# Altium integrated library Linear Technology PMIC-Switching Reg LTC1174-LTC3901.IntLib: 2647 symbols (part 196 of 310)
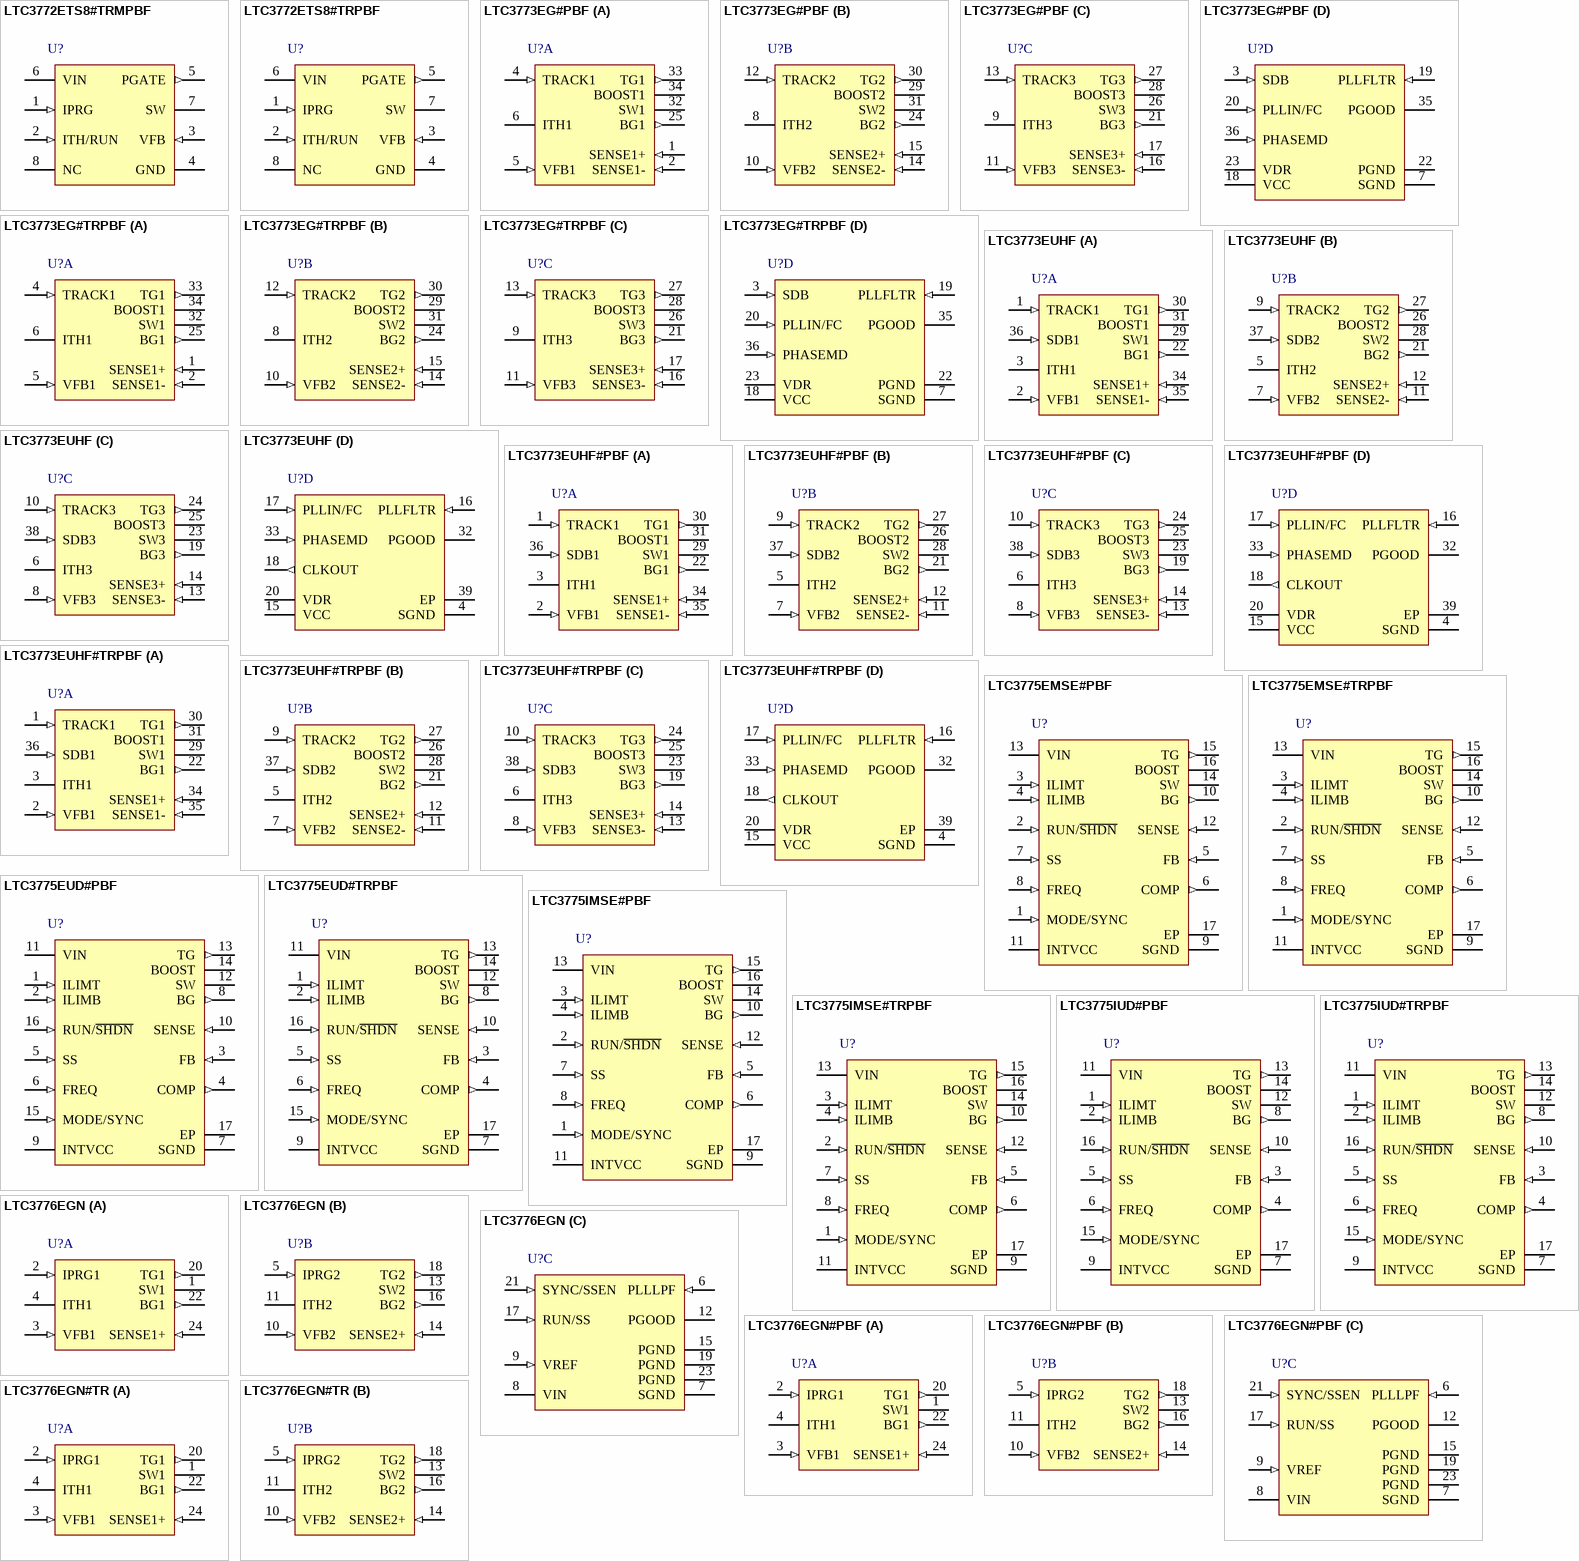
[diagram p230: symbols LTC3772ETS8#TRMPBF to LTC3776EGN#TR]

## LTC3773EG#PBF
designator U?
Triple Output Synchronous 3-Phase DC/DC Controller with Up / Down Tracking, 36-pin SOP (G-36), -40 to 85 degC, Pb-Free; Manufacturer: Linear Technology; PartNumber: LTC3773EG#PBF; Number of Outputs: 2; PackageReference: G-36; PackageDescription: 36-Pin Plastic SSOP, Body 12.8 x 5.3 mm, Pitch 0.65 mm; Supplier 1: Digi-Key; Supplier Part Number 1: LTC3773EG#PBF-ND; RoHS: TRUE
footprint LT-G-36_N (SOP, 36-Leads, Body 13.1x5.6mm, Pitch 0.65mm, IPC Medium Density)
footprint LT-G-36_L (SOP, 36-Leads, Body 13.1x5.6mm, Pitch 0.65mm, IPC High Density)
footprint LT-G-36_M (SOP, 36-Leads, Body 13.1x5.6mm, Pitch 0.65mm, IPC Low Density)
part A pins: 1 SENSE1+ (in) "The (+) Input to the Channel 1 Differential Current Comparator. The ITH1 pin voltage and controlled offsets between the SENSE1- and SENSE1+ pins in conjunction with RSENSE set the channel 1 current trip threshold.", 2 SENSE1- (in) "The (-) Input to the Channel 1 Differential Current Comparator.", 4 TRACK1 (in) "Channel 1 Tracking Input. TRACK1 is used for tracking multiple LTC3773s. See the Startup Tracking application. To disable this feature, float this pin or tie it to VCC. TRACK1 provides a 1uA pull-up current. An external (See Datasheet)", 5 VFB1 (in) "Channel 1 Error Amplifier Feedback Input. This pin connects the error amplifi er input to an external resistive divider from VOUT1.", 6 ITH1 "Channel 1 Error Amplifier Output and Switching Regulator Compensation Point. The current comparator’s threshold increases with this control voltage.", 25 BG1 (out) "Channel 1 Bottom Gate Drive. Drives the gate of the bottom N-channel MOSFET between ground and VDR.", 32 SW1 "Channel 1 Switching Node. The (-) terminal of the bootstrap capacitor connects here. This pin swings from a Schottky diode (external) voltage drop below ground to VIN (where VIN is the external MOSFET supply rail).", 33 TG1 (out) "Channel 1 Top Gate Drive. The TG1 pin drives the top N-channel MOSFET with a voltage swing equal to VDR superimposed on the switch node voltage SW.", 34 BOOST1 "Channel 1 Top Gate Driver Supply. The (+) terminal of the bootstrap capacitor connects here. This pin swings from approximately VDR up to VIN + VDR (where VIN is the external MOSFET supply rail)."
part B pins: 8 ITH2 "Channel 2 Error Amplifier Output and Switching Regulator Compensation Point. See ITH1.", 10 VFB2 (in) "Channel 2 Error Amplifier Feedback Input. See VFB1.", 12 TRACK2 (in) "Channel 2 Tracking Input. Tie the TRACK2 pin to a resistive divider connected to the output of channel 1 for either coincident or ratiometric output tracking. See the Soft-Start/Tracking application. TRACK2 comes with a 1uA (See Datasheet)", 14 SENSE2- (in) "The (-) Input to the Channel 2 Differential Current Comparator. See SENSE1-.", 15 SENSE2+ (in) "The (+) Input to the Channel 2 Differential Current Comparator. See SENSE1+.", 24 BG2 (out) "Channel 2 Bottom Gate Drive. See BG1.", 29 BOOST2 "Channel 2 Top Gate Driver Supply. See BOOST1.", 30 TG2 (out) "Channel 2 Top Gate Drive. See TG1.", 31 SW2 "Channel 2 Switching Node. See SW1."
part C pins: 9 ITH3 "Channel 3 Error Amplifier Output and Switching Regulator Compensation Point. See ITH1.", 11 VFB3 (in) "Channel 3 Error Amplifier Feedback Input. See VFB1.", 13 TRACK3 (in) "Channel 3 Tracking Input. See TRACK2.", 16 SENSE3- (in) "The (-) Input to the Channel 3 Differential Current Comparator. See SENSE1-.", 17 SENSE3+ (in) "The (+) Input to the Channel 3 Differential Current Comparator. See SENSE1+.", 21 BG3 (out) "Channel 3 Bottom Gate Drive. See BG1.", 26 SW3 "Channel 3 Switching Node. See SW1.", 27 TG3 (out) "Channel 3 Top Gate Drive. See TG1.", 28 BOOST3 "Channel 3 Top Gate Driver Supply. See BOOST1."
part D pins: 3 SDB (in) "Shutdown, Active Low. For G package, SDB1, SDB2 and SDB3 are shorted at the SDB pin. The power up thresholds for channel 1, 2 and 3 are set at 1.2V, 1.8V and 2.4V respectively. By pulling the SDB1, SDB2 and SDB3 pins below 0.(See Datasheet)", 7 SGND (power) "Signal Ground. This pin must be routed separately under the IC to the PGND pin and then to the main ground plane.", 18 VCC (power) "Main Input Supply. All internal circuits except the output drivers are powered from this pin. VCC should be connected to a low noise 5V power supply and should be bypassed to SGND with at least a 1uF capacitor in close (See Datasheet)", 19 PLLFLTR (in) "Phase-Locked Loop Lowpass Filter. The phase-locked loop’s lowpass filter is tied to this pin. Alternatively, when external frequency synchronizing is not used, this pin can be forced low, left floating or tied high to var(See Datasheet)", 20 PLLIN/FC (in) "Synchronization Input to the Phase Detector and Forced Continuous Control Input. When fl oating, it sits around 1.6V, and the controller enters discontinuous mode operation at light load. Shorting this pin low or high for (See Datasheet)", 22 PGND (power) "Driver’s Power Ground. This pin connects directly to the sources of the bottom N-channel external MOSFETs and the (-) terminals of CIN. The backside exposed pad (QFN) must be soldered to PCB ground.", 23 VDR (power) "Driver Supply. Provides supply to the drivers for the bottom gates. Also used for charging the bootstrap capacitors. This pin needs to be very carefully and closely decoupled to the IC’s PGND pin. If the VDR potential i(See Datasheet)", 35 PGOOD (oc) "Open Drain Power Good Output. This open-drain output is pulled low during shutdown or when any of the three output voltages has been outside the PGOOD tolerance window for more than 100us.", 36 PHASEMD (in) "Phase Select Input. This pin controls the phase relationship between controller 1, controller 2, controller 3 and CLKOUT. When PHASEMD is floating, its value is around 1.6V, the three channels switch 120degrees out of phase, (See Datasheet)"

## LTC3773EG#TRPBF
designator U?
Triple Output Synchronous 3-Phase DC/DC Controller with Up / Down Tracking, 36-pin SOP (G-36), -40 to 85 degC, Pb-Free, Tape and Reel; Manufacturer: Linear Technology; PartNumber: LTC3773EG#TRPBF; Number of Outputs: 2; PackageReference: G-36; PackageDescription: 36-Pin Plastic SSOP, Body 12.8 x 5.3 mm, Pitch 0.65 mm; Supplier 1: Digi-Key; Supplier Part Number 1: LTC3773EG#TRPBF-ND; RoHS: TRUE
footprint LT-G-36_N (SOP, 36-Leads, Body 13.1x5.6mm, Pitch 0.65mm, IPC Medium Density)
footprint LT-G-36_L (SOP, 36-Leads, Body 13.1x5.6mm, Pitch 0.65mm, IPC High Density)
footprint LT-G-36_M (SOP, 36-Leads, Body 13.1x5.6mm, Pitch 0.65mm, IPC Low Density)
part A pins: 1 SENSE1+ (in) "The (+) Input to the Channel 1 Differential Current Comparator. The ITH1 pin voltage and controlled offsets between the SENSE1- and SENSE1+ pins in conjunction with RSENSE set the channel 1 current trip threshold.", 2 SENSE1- (in) "The (-) Input to the Channel 1 Differential Current Comparator.", 4 TRACK1 (in) "Channel 1 Tracking Input. TRACK1 is used for tracking multiple LTC3773s. See the Startup Tracking application. To disable this feature, float this pin or tie it to VCC. TRACK1 provides a 1uA pull-up current. An external (See Datasheet)", 5 VFB1 (in) "Channel 1 Error Amplifier Feedback Input. This pin connects the error amplifi er input to an external resistive divider from VOUT1.", 6 ITH1 "Channel 1 Error Amplifier Output and Switching Regulator Compensation Point. The current comparator’s threshold increases with this control voltage.", 25 BG1 (out) "Channel 1 Bottom Gate Drive. Drives the gate of the bottom N-channel MOSFET between ground and VDR.", 32 SW1 "Channel 1 Switching Node. The (-) terminal of the bootstrap capacitor connects here. This pin swings from a Schottky diode (external) voltage drop below ground to VIN (where VIN is the external MOSFET supply rail).", 33 TG1 (out) "Channel 1 Top Gate Drive. The TG1 pin drives the top N-channel MOSFET with a voltage swing equal to VDR superimposed on the switch node voltage SW.", 34 BOOST1 "Channel 1 Top Gate Driver Supply. The (+) terminal of the bootstrap capacitor connects here. This pin swings from approximately VDR up to VIN + VDR (where VIN is the external MOSFET supply rail)."
part B pins: 8 ITH2 "Channel 2 Error Amplifier Output and Switching Regulator Compensation Point. See ITH1.", 10 VFB2 (in) "Channel 2 Error Amplifier Feedback Input. See VFB1.", 12 TRACK2 (in) "Channel 2 Tracking Input. Tie the TRACK2 pin to a resistive divider connected to the output of channel 1 for either coincident or ratiometric output tracking. See the Soft-Start/Tracking application. TRACK2 comes with a 1uA (See Datasheet)", 14 SENSE2- (in) "The (-) Input to the Channel 2 Differential Current Comparator. See SENSE1-.", 15 SENSE2+ (in) "The (+) Input to the Channel 2 Differential Current Comparator. See SENSE1+.", 24 BG2 (out) "Channel 2 Bottom Gate Drive. See BG1.", 29 BOOST2 "Channel 2 Top Gate Driver Supply. See BOOST1.", 30 TG2 (out) "Channel 2 Top Gate Drive. See TG1.", 31 SW2 "Channel 2 Switching Node. See SW1."
part C pins: 9 ITH3 "Channel 3 Error Amplifier Output and Switching Regulator Compensation Point. See ITH1.", 11 VFB3 (in) "Channel 3 Error Amplifier Feedback Input. See VFB1.", 13 TRACK3 (in) "Channel 3 Tracking Input. See TRACK2.", 16 SENSE3- (in) "The (-) Input to the Channel 3 Differential Current Comparator. See SENSE1-.", 17 SENSE3+ (in) "The (+) Input to the Channel 3 Differential Current Comparator. See SENSE1+.", 21 BG3 (out) "Channel 3 Bottom Gate Drive. See BG1.", 26 SW3 "Channel 3 Switching Node. See SW1.", 27 TG3 (out) "Channel 3 Top Gate Drive. See TG1.", 28 BOOST3 "Channel 3 Top Gate Driver Supply. See BOOST1."
part D pins: 3 SDB (in) "Shutdown, Active Low. For G package, SDB1, SDB2 and SDB3 are shorted at the SDB pin. The power up thresholds for channel 1, 2 and 3 are set at 1.2V, 1.8V and 2.4V respectively. By pulling the SDB1, SDB2 and SDB3 pins below 0.(See Datasheet)", 7 SGND (power) "Signal Ground. This pin must be routed separately under the IC to the PGND pin and then to the main ground plane.", 18 VCC (power) "Main Input Supply. All internal circuits except the output drivers are powered from this pin. VCC should be connected to a low noise 5V power supply and should be bypassed to SGND with at least a 1uF capacitor in close (See Datasheet)", 19 PLLFLTR (in) "Phase-Locked Loop Lowpass Filter. The phase-locked loop’s lowpass filter is tied to this pin. Alternatively, when external frequency synchronizing is not used, this pin can be forced low, left floating or tied high to var(See Datasheet)", 20 PLLIN/FC (in) "Synchronization Input to the Phase Detector and Forced Continuous Control Input. When fl oating, it sits around 1.6V, and the controller enters discontinuous mode operation at light load. Shorting this pin low or high for (See Datasheet)", 22 PGND (power) "Driver’s Power Ground. This pin connects directly to the sources of the bottom N-channel external MOSFETs and the (-) terminals of CIN. The backside exposed pad (QFN) must be soldered to PCB ground.", 23 VDR (power) "Driver Supply. Provides supply to the drivers for the bottom gates. Also used for charging the bootstrap capacitors. This pin needs to be very carefully and closely decoupled to the IC’s PGND pin. If the VDR potential i(See Datasheet)", 35 PGOOD (oc) "Open Drain Power Good Output. This open-drain output is pulled low during shutdown or when any of the three output voltages has been outside the PGOOD tolerance window for more than 100us.", 36 PHASEMD (in) "Phase Select Input. This pin controls the phase relationship between controller 1, controller 2, controller 3 and CLKOUT. When PHASEMD is floating, its value is around 1.6V, the three channels switch 120degrees out of phase, (See Datasheet)"

## LTC3773EUHF
designator U?
Triple Output Synchronous 3-Phase DC/DC Controller with Up / Down Tracking, 38-pin QFN (UHF-38), -40 to 85 degC; Manufacturer: Linear Technology; PartNumber: LTC3773EUHF; Number of Outputs: 2; PackageReference: UHF-38; PackageDescription: 38-Pin Plastic QFN, Body 7 x 5 mm, Pitch 0.5 mm; RoHS: FALSE; Code_JEDEC: MO-220
footprint LT-UHF-38_N (QFN, 38-Leads, Body 7.1x5.1mm, Pitch 0.5mm, Thermal Pad 3.15x5.15mm, IPC Medium Density)
footprint LT-UHF-38_L (QFN, 38-Leads, Body 7.1x5.1mm, Pitch 0.5mm, Thermal Pad 3.15x5.15mm, IPC High Density)
footprint LT-UHF-38_M (QFN, 38-Leads, Body 7.1x5.1mm, Pitch 0.5mm, Thermal Pad 3.15x5.15mm, IPC Low Density)
part A pins: 1 TRACK1 (in) "Channel 1 Tracking Input. TRACK1 is used for tracking multiple LTC3773s. See the Startup Tracking application. To disable this feature, ?oat this pin or tie it to VCC. TRACK1 provides a 1uA pull-up current. An externa(See Datasheet)", 2 VFB1 (in) "Channel 1 Error Ampli?er Feedback Input. This pin connects the error ampli?er input to an external resistive divider from VOUT1.", 3 ITH1 "Channel 1 Error Ampli?er Output and Switching Regulator Compensation Point. The current comparator’s threshold increases with this control voltage.", 22 BG1 (out) "Channel 1 Bottom Gate Drive. Drives the gate of the bottom N-channel MOSFET between ground and VDR.", 29 SW1 "Channel 1 Switching Node. The (-) terminal of the bootstrap capacitor connects here. This pin swings from a Schottky diode (external) voltage drop below ground to VIN (where VIN is the external MOSFET supply rail)", 30 TG1 (out) "Channel 1 Top Gate Drive. The TG1 pin drives the top N-channel MOSFET with a voltage swing equal to VDR superimposed on the switch node voltage SW.", 31 BOOST1 "Channel 1 Top Gate Driver Supply. The (+) terminal of the bootstrap capacitor connects here. This pin swings from approximately VDR up to VIN + VDR (where VIN is the external MOSFET supply rail).", 34 SENSE1+ (in) "The (+) Input to the Channel 1 Differential Current Comparator. The ITH1 pin voltage and controlled offsets between the SENSE1- and SENSE1+ pins in conjunction with RSENSE set the channel 1 current trip threshold", 35 SENSE1- (in) "The (-) Input to the Channel 1 Differential Current Comparator.", 36 SDB1 (in) "Shutdown, Active Low. For G package, SDB1, SDB2 and SDB3 are shorted at the SDB pin. The power up thresholds for channel 1, 2 and 3 are set at 1.2V, 1.8V and 2.4V respectively. By pulling the SDB1, SDB2 and SDB3 pins below 0.(See Datasheet)"
part B pins: 5 ITH2 "Channel 2 Error Ampli?er Output and Switching Regulator Compensation Point. See ITH1.", 7 VFB2 (in) "Channel 2 Error Ampli?er Feedback Input. See VFB1.", 9 TRACK2 (in) "Channel 2 Tracking Input. Tie the TRACK2 pin to a resistive divider connected to the output of channel 1 for either coincident or ratiometric output tracking. See the Soft-Start/Tracking application. TRACK2 comes with a 1uA (See Datasheet)", 11 SENSE2- (in) "The (-) Input to the Channel 2 Differential Current Comparator. See SENSE1- .", 12 SENSE2+ (in) "The (+) Input to the Channel 2 Differential Current Comparator. See SENSE1+ .", 21 BG2 (out) "Channel 2 Bottom Gate Drive. See BG1", 26 BOOST2 "Channel 2 Top Gate Driver Supply. See BOOST1.", 27 TG2 (out) "Channel 2 Top Gate Drive. See TG1.", 28 SW2 "Channel 2 Switching Node. See SW1.", 37 SDB2 (in) "Shutdown, Active Low. For G package, SDB1, SDB2 and SDB3 are shorted at the SDB pin. The power up thresholds for channel 1, 2 and 3 are set at 1.2V, 1.8V and 2.4V respectively. By pulling the SDB1, SDB2 and SDB3 pins below 0.(See Datasheet)"
part C pins: 6 ITH3 "Channel 3 Error Ampli?er Output and Switching Regulator Compensation Point. See ITH1.", 8 VFB3 (in) "Channel 3 Error Ampli?er Feedback Input. See VFB1.", 10 TRACK3 (in) "Channel 3 Tracking Input. See TRACK2.", 13 SENSE3- (in) "The (-) Input to the Channel 3 Differential Current Comparator. See SENSE1- .", 14 SENSE3+ (in) "The (+) Input to the Channel 3 Differential Current Comparator. See SENSE1+ .", 19 BG3 (out) "Channel 3 Bottom Gate Drive. See BG1.", 23 SW3 "Channel 3 Switching Node. See SW1.", 24 TG3 (out) "Channel 3 Top Gate Drive. See TG1.", 25 BOOST3 "Channel 3 Top Gate Driver Supply. See BOOST1.", 38 SDB3 (in) "Shutdown, Active Low. For G package, SDB1, SDB2 and SDB3 are shorted at the SDB pin. The power up thresholds for channel 1, 2 and 3 are set at 1.2V, 1.8V and 2.4V respectively. By pulling the SDB1, SDB2 and SDB3 pins below 0.(See Datasheet)"
part D pins: 4 SGND (power) "Signal Ground. This pin must be routed separately under the IC to the PGND pin and then to the main ground plane.", 15 VCC (power) "Main Input Supply. All internal circuits except the output drivers are powered from this pin. VCC should be connected to a low noise 5V power supply and should be bypassed to SGND with at least a 1uF capacitor in close (See Datasheet)", 16 PLLFLTR (in) "Phase-Locked Loop Lowpass Filter. The phase-locked loop’s lowpass ? lter is tied to this pin. Alternatively, when external frequency synchronizing is not used, this pin can be forced low, left ?oating or tied hi(See Datasheet)", 17 PLLIN/FC (in) "Synchronization Input to the Phase Detector and Forced Continuous Control Input. When ?oating, it sits around 1.6V, and the controller enters discontinuous mode operation at light load. Shorting this pin low or high fo(See Datasheet)", 18 CLKOUT (out) "CLK Output. Output clock signal available to synchronize other controller ICs for additional MOSFET controller stages/phases", 20 VDR (power) "Driver Supply. Provides supply to the drivers for the bottom gates. Also used for charging the bootstrap capacitors. This pin needs to be very carefully and closely decoupled to the IC’s PGND pin. If the VDR potential i(See Datasheet)", 32 PGOOD (oc) "Open Drain Power Good Output. This open-drain output is pulled low during shutdown or when any of the three output voltages has been outside the PGOOD tolerance window for more than 100us.", 33 PHASEMD (in) "Phase Select Input. This pin controls the phase relationship between controller 1, controller 2, controller 3 and CLKOUT. When PHASEMD is ?oating, its value is around 1.6V, the three channels switch 120degrees out o(See Datasheet)", 39 EP (power) "Driver’s Power Ground. This pin connects directly to the sources of the bottom N-channel external MOSFETs and the (-) terminals of CIN. The backside exposed pad (QFN) must be soldered to PCB ground."

## LTC3773EUHF#PBF
designator U?
Triple Output Synchronous 3-Phase DC/DC Controller with Up / Down Tracking, 38-pin QFN (UHF-38), -40 to 85 degC, Pb-Free; Manufacturer: Linear Technology; PartNumber: LTC3773EUHF#PBF; Number of Outputs: 2; PackageReference: UHF-38; PackageDescription: 38-Pin Plastic QFN, Body 7 x 5 mm, Pitch 0.5 mm; Supplier 1: Digi-Key; Supplier Part Number 1: LTC3773EUHF#PBF-ND; RoHS: TRUE; Code_JEDEC: MO-220
footprint LT-UHF-38_N (QFN, 38-Leads, Body 7.1x5.1mm, Pitch 0.5mm, Thermal Pad 3.15x5.15mm, IPC Medium Density)
footprint LT-UHF-38_L (QFN, 38-Leads, Body 7.1x5.1mm, Pitch 0.5mm, Thermal Pad 3.15x5.15mm, IPC High Density)
footprint LT-UHF-38_M (QFN, 38-Leads, Body 7.1x5.1mm, Pitch 0.5mm, Thermal Pad 3.15x5.15mm, IPC Low Density)
part A pins: 1 TRACK1 (in) "Channel 1 Tracking Input. TRACK1 is used for tracking multiple LTC3773s. See the Startup Tracking application. To disable this feature, ?oat this pin or tie it to VCC. TRACK1 provides a 1uA pull-up current. An externa(See Datasheet)", 2 VFB1 (in) "Channel 1 Error Ampli?er Feedback Input. This pin connects the error ampli?er input to an external resistive divider from VOUT1.", 3 ITH1 "Channel 1 Error Ampli?er Output and Switching Regulator Compensation Point. The current comparator’s threshold increases with this control voltage.", 22 BG1 (out) "Channel 1 Bottom Gate Drive. Drives the gate of the bottom N-channel MOSFET between ground and VDR.", 29 SW1 "Channel 1 Switching Node. The (-) terminal of the bootstrap capacitor connects here. This pin swings from a Schottky diode (external) voltage drop below ground to VIN (where VIN is the external MOSFET supply rail)", 30 TG1 (out) "Channel 1 Top Gate Drive. The TG1 pin drives the top N-channel MOSFET with a voltage swing equal to VDR superimposed on the switch node voltage SW.", 31 BOOST1 "Channel 1 Top Gate Driver Supply. The (+) terminal of the bootstrap capacitor connects here. This pin swings from approximately VDR up to VIN + VDR (where VIN is the external MOSFET supply rail).", 34 SENSE1+ (in) "The (+) Input to the Channel 1 Differential Current Comparator. The ITH1 pin voltage and controlled offsets between the SENSE1- and SENSE1+ pins in conjunction with RSENSE set the channel 1 current trip threshold", 35 SENSE1- (in) "The (-) Input to the Channel 1 Differential Current Comparator.", 36 SDB1 (in) "Shutdown, Active Low. For G package, SDB1, SDB2 and SDB3 are shorted at the SDB pin. The power up thresholds for channel 1, 2 and 3 are set at 1.2V, 1.8V and 2.4V respectively. By pulling the SDB1, SDB2 and SDB3 pins below 0.(See Datasheet)"
part B pins: 5 ITH2 "Channel 2 Error Ampli?er Output and Switching Regulator Compensation Point. See ITH1.", 7 VFB2 (in) "Channel 2 Error Ampli?er Feedback Input. See VFB1.", 9 TRACK2 (in) "Channel 2 Tracking Input. Tie the TRACK2 pin to a resistive divider connected to the output of channel 1 for either coincident or ratiometric output tracking. See the Soft-Start/Tracking application. TRACK2 comes with a 1uA (See Datasheet)", 11 SENSE2- (in) "The (-) Input to the Channel 2 Differential Current Comparator. See SENSE1- .", 12 SENSE2+ (in) "The (+) Input to the Channel 2 Differential Current Comparator. See SENSE1+ .", 21 BG2 (out) "Channel 2 Bottom Gate Drive. See BG1", 26 BOOST2 "Channel 2 Top Gate Driver Supply. See BOOST1.", 27 TG2 (out) "Channel 2 Top Gate Drive. See TG1.", 28 SW2 "Channel 2 Switching Node. See SW1.", 37 SDB2 (in) "Shutdown, Active Low. For G package, SDB1, SDB2 and SDB3 are shorted at the SDB pin. The power up thresholds for channel 1, 2 and 3 are set at 1.2V, 1.8V and 2.4V respectively. By pulling the SDB1, SDB2 and SDB3 pins below 0.(See Datasheet)"
part C pins: 6 ITH3 "Channel 3 Error Ampli?er Output and Switching Regulator Compensation Point. See ITH1.", 8 VFB3 (in) "Channel 3 Error Ampli?er Feedback Input. See VFB1.", 10 TRACK3 (in) "Channel 3 Tracking Input. See TRACK2.", 13 SENSE3- (in) "The (-) Input to the Channel 3 Differential Current Comparator. See SENSE1- .", 14 SENSE3+ (in) "The (+) Input to the Channel 3 Differential Current Comparator. See SENSE1+ .", 19 BG3 (out) "Channel 3 Bottom Gate Drive. See BG1.", 23 SW3 "Channel 3 Switching Node. See SW1.", 24 TG3 (out) "Channel 3 Top Gate Drive. See TG1.", 25 BOOST3 "Channel 3 Top Gate Driver Supply. See BOOST1.", 38 SDB3 (in) "Shutdown, Active Low. For G package, SDB1, SDB2 and SDB3 are shorted at the SDB pin. The power up thresholds for channel 1, 2 and 3 are set at 1.2V, 1.8V and 2.4V respectively. By pulling the SDB1, SDB2 and SDB3 pins below 0.(See Datasheet)"
part D pins: 4 SGND (power) "Signal Ground. This pin must be routed separately under the IC to the PGND pin and then to the main ground plane.", 15 VCC (power) "Main Input Supply. All internal circuits except the output drivers are powered from this pin. VCC should be connected to a low noise 5V power supply and should be bypassed to SGND with at least a 1uF capacitor in close (See Datasheet)", 16 PLLFLTR (in) "Phase-Locked Loop Lowpass Filter. The phase-locked loop’s lowpass ? lter is tied to this pin. Alternatively, when external frequency synchronizing is not used, this pin can be forced low, left ?oating or tied hi(See Datasheet)", 17 PLLIN/FC (in) "Synchronization Input to the Phase Detector and Forced Continuous Control Input. When ?oating, it sits around 1.6V, and the controller enters discontinuous mode operation at light load. Shorting this pin low or high fo(See Datasheet)", 18 CLKOUT (out) "CLK Output. Output clock signal available to synchronize other controller ICs for additional MOSFET controller stages/phases", 20 VDR (power) "Driver Supply. Provides supply to the drivers for the bottom gates. Also used for charging the bootstrap capacitors. This pin needs to be very carefully and closely decoupled to the IC’s PGND pin. If the VDR potential i(See Datasheet)", 32 PGOOD (oc) "Open Drain Power Good Output. This open-drain output is pulled low during shutdown or when any of the three output voltages has been outside the PGOOD tolerance window for more than 100us.", 33 PHASEMD (in) "Phase Select Input. This pin controls the phase relationship between controller 1, controller 2, controller 3 and CLKOUT. When PHASEMD is ?oating, its value is around 1.6V, the three channels switch 120degrees out o(See Datasheet)", 39 EP (power) "Driver’s Power Ground. This pin connects directly to the sources of the bottom N-channel external MOSFETs and the (-) terminals of CIN. The backside exposed pad (QFN) must be soldered to PCB ground."

## LTC3773EUHF#TRPBF
designator U?
Triple Output Synchronous 3-Phase DC/DC Controller with Up / Down Tracking, 38-pin QFN (UHF-38), -40 to 85 degC, Pb-Free, Tape and Reel; Manufacturer: Linear Technology; PartNumber: LTC3773EUHF#TRPBF; Number of Outputs: 2; PackageReference: UHF-38; PackageDescription: 38-Pin Plastic QFN, Body 7 x 5 mm, Pitch 0.5 mm; Supplier 1: Digi-Key; Supplier Part Number 1: LTC3773EUHF#TRPBF-ND; RoHS: TRUE; Code_JEDEC: MO-220
footprint LT-UHF-38_N (QFN, 38-Leads, Body 7.1x5.1mm, Pitch 0.5mm, Thermal Pad 3.15x5.15mm, IPC Medium Density)
footprint LT-UHF-38_L (QFN, 38-Leads, Body 7.1x5.1mm, Pitch 0.5mm, Thermal Pad 3.15x5.15mm, IPC High Density)
footprint LT-UHF-38_M (QFN, 38-Leads, Body 7.1x5.1mm, Pitch 0.5mm, Thermal Pad 3.15x5.15mm, IPC Low Density)
part A pins: 1 TRACK1 (in) "Channel 1 Tracking Input. TRACK1 is used for tracking multiple LTC3773s. See the Startup Tracking application. To disable this feature, ?oat this pin or tie it to VCC. TRACK1 provides a 1uA pull-up current. An externa(See Datasheet)", 2 VFB1 (in) "Channel 1 Error Ampli?er Feedback Input. This pin connects the error ampli?er input to an external resistive divider from VOUT1.", 3 ITH1 "Channel 1 Error Ampli?er Output and Switching Regulator Compensation Point. The current comparator’s threshold increases with this control voltage.", 22 BG1 (out) "Channel 1 Bottom Gate Drive. Drives the gate of the bottom N-channel MOSFET between ground and VDR.", 29 SW1 "Channel 1 Switching Node. The (-) terminal of the bootstrap capacitor connects here. This pin swings from a Schottky diode (external) voltage drop below ground to VIN (where VIN is the external MOSFET supply rail)", 30 TG1 (out) "Channel 1 Top Gate Drive. The TG1 pin drives the top N-channel MOSFET with a voltage swing equal to VDR superimposed on the switch node voltage SW.", 31 BOOST1 "Channel 1 Top Gate Driver Supply. The (+) terminal of the bootstrap capacitor connects here. This pin swings from approximately VDR up to VIN + VDR (where VIN is the external MOSFET supply rail).", 34 SENSE1+ (in) "The (+) Input to the Channel 1 Differential Current Comparator. The ITH1 pin voltage and controlled offsets between the SENSE1- and SENSE1+ pins in conjunction with RSENSE set the channel 1 current trip threshold", 35 SENSE1- (in) "The (-) Input to the Channel 1 Differential Current Comparator.", 36 SDB1 (in) "Shutdown, Active Low. For G package, SDB1, SDB2 and SDB3 are shorted at the SDB pin. The power up thresholds for channel 1, 2 and 3 are set at 1.2V, 1.8V and 2.4V respectively. By pulling the SDB1, SDB2 and SDB3 pins below 0.(See Datasheet)"
part B pins: 5 ITH2 "Channel 2 Error Ampli?er Output and Switching Regulator Compensation Point. See ITH1.", 7 VFB2 (in) "Channel 2 Error Ampli?er Feedback Input. See VFB1.", 9 TRACK2 (in) "Channel 2 Tracking Input. Tie the TRACK2 pin to a resistive divider connected to the output of channel 1 for either coincident or ratiometric output tracking. See the Soft-Start/Tracking application. TRACK2 comes with a 1uA (See Datasheet)", 11 SENSE2- (in) "The (-) Input to the Channel 2 Differential Current Comparator. See SENSE1- .", 12 SENSE2+ (in) "The (+) Input to the Channel 2 Differential Current Comparator. See SENSE1+ .", 21 BG2 (out) "Channel 2 Bottom Gate Drive. See BG1", 26 BOOST2 "Channel 2 Top Gate Driver Supply. See BOOST1.", 27 TG2 (out) "Channel 2 Top Gate Drive. See TG1.", 28 SW2 "Channel 2 Switching Node. See SW1.", 37 SDB2 (in) "Shutdown, Active Low. For G package, SDB1, SDB2 and SDB3 are shorted at the SDB pin. The power up thresholds for channel 1, 2 and 3 are set at 1.2V, 1.8V and 2.4V respectively. By pulling the SDB1, SDB2 and SDB3 pins below 0.(See Datasheet)"
part C pins: 6 ITH3 "Channel 3 Error Ampli?er Output and Switching Regulator Compensation Point. See ITH1.", 8 VFB3 (in) "Channel 3 Error Ampli?er Feedback Input. See VFB1.", 10 TRACK3 (in) "Channel 3 Tracking Input. See TRACK2.", 13 SENSE3- (in) "The (-) Input to the Channel 3 Differential Current Comparator. See SENSE1- .", 14 SENSE3+ (in) "The (+) Input to the Channel 3 Differential Current Comparator. See SENSE1+ .", 19 BG3 (out) "Channel 3 Bottom Gate Drive. See BG1.", 23 SW3 "Channel 3 Switching Node. See SW1.", 24 TG3 (out) "Channel 3 Top Gate Drive. See TG1.", 25 BOOST3 "Channel 3 Top Gate Driver Supply. See BOOST1.", 38 SDB3 (in) "Shutdown, Active Low. For G package, SDB1, SDB2 and SDB3 are shorted at the SDB pin. The power up thresholds for channel 1, 2 and 3 are set at 1.2V, 1.8V and 2.4V respectively. By pulling the SDB1, SDB2 and SDB3 pins below 0.(See Datasheet)"
part D pins: 4 SGND (power) "Signal Ground. This pin must be routed separately under the IC to the PGND pin and then to the main ground plane.", 15 VCC (power) "Main Input Supply. All internal circuits except the output drivers are powered from this pin. VCC should be connected to a low noise 5V power supply and should be bypassed to SGND with at least a 1uF capacitor in close (See Datasheet)", 16 PLLFLTR (in) "Phase-Locked Loop Lowpass Filter. The phase-locked loop’s lowpass ? lter is tied to this pin. Alternatively, when external frequency synchronizing is not used, this pin can be forced low, left ?oating or tied hi(See Datasheet)", 17 PLLIN/FC (in) "Synchronization Input to the Phase Detector and Forced Continuous Control Input. When ?oating, it sits around 1.6V, and the controller enters discontinuous mode operation at light load. Shorting this pin low or high fo(See Datasheet)", 18 CLKOUT (out) "CLK Output. Output clock signal available to synchronize other controller ICs for additional MOSFET controller stages/phases", 20 VDR (power) "Driver Supply. Provides supply to the drivers for the bottom gates. Also used for charging the bootstrap capacitors. This pin needs to be very carefully and closely decoupled to the IC’s PGND pin. If the VDR potential i(See Datasheet)", 32 PGOOD (oc) "Open Drain Power Good Output. This open-drain output is pulled low during shutdown or when any of the three output voltages has been outside the PGOOD tolerance window for more than 100us.", 33 PHASEMD (in) "Phase Select Input. This pin controls the phase relationship between controller 1, controller 2, controller 3 and CLKOUT. When PHASEMD is ?oating, its value is around 1.6V, the three channels switch 120degrees out o(See Datasheet)", 39 EP (power) "Driver’s Power Ground. This pin connects directly to the sources of the bottom N-channel external MOSFETs and the (-) terminals of CIN. The backside exposed pad (QFN) must be soldered to PCB ground."

## LTC3775EMSE#PBF
designator U?
High Frequency Synchronous Step-Down Voltage Mode DC/DC Controller, 16-pin SOP (MSE-16-EDP), -40 to 85 degC, Pb-Free; Manufacturer: Linear Technology; PartNumber: LTC3775EMSE#PBF; Number of Outputs: 1; PackageReference: MSE-16; PackageDescription: 16-Pin Plastic MSOP, Exposed Die Pad, Body 4.039 x 3 mm, Pitch 0.5 mm; Supplier 1: Digi-Key; Supplier Part Number 1: LTC3775EMSE#PBF-ND; RoHS: TRUE
footprint LT-MSE-16-EDP_N (SOP, 16-Leads, Body 4.1x3.1mm, Pitch 0.5mm, Thermal Pad 2.95x1.76mm, IPC Medium Density)
footprint LT-MSE-16-EDP_L (SOP, 16-Leads, Body 4.1x3.1mm, Pitch 0.5mm, Thermal Pad 2.95x1.76mm, IPC High Density)
footprint LT-MSE-16-EDP_M (SOP, 16-Leads, Body 4.1x3.1mm, Pitch 0.5mm, Thermal Pad 2.95x1.76mm, IPC Low Density)
pins: 1 MODE/SYNC (in) "Pulse-Skipping Mode Enable/ Sync Pin. This multifunction pin provides pulse-skipping mode enable/disable control and an external clock input for synchronization of the internal oscillator. Pulling this pin below 1.2V (DC) or (See Datasheet)", 2 RUN/~{SHDN} (in) "Enable/Shutdown Input. Pulling this pin above 1.22V enables the controller. Forcing this pin below 1.22V causes the driver outputs to pull low. Pulling this pin below 0.74V forces the LTC3775 into shutdown mode. While in (See Datasheet)", 3 ILIMT (in) "Topside Current Limit Set Point. This pin has an internal 100uA pull-down current, allowing the topside current limit threshold to be programmed by  an external resistor connected to VIN. See Current Limit Applications.", 4 ILIMB (in) "Bottom Side Current Limit Set Point. This pin has an internal 10uA pull-up current, allowing the bottom side current limit threshold to be programmed by an external resistor connected to SGND. See Current Limit Applications.", 5 FB (in) "Error Amplifier Input. The FB pin is connected to a resistive divider from VOUT to SGND. The feedback loop compensation network is also connected to this pin.", 6 COMP (out) "Error Amplifier Output. Use an RC network between the COMP pin and the FB pin to compensate the feedback loop for optimum transient response", 7 SS (in) "Soft-Start. Connect this pin to an external capacitor, CSS, to implement a soft-start function. When the voltage on the SS pin is less than the 0.6V internal reference, the LTC3775 regulates the VFB voltage to the SS pin (See Datasheet)", 8 FREQ (in) "Frequency Set. A resistor connected from this pin to SGND sets the free-running frequency of the internal oscillator. See Applications Information section for resistor value selection details", 9 SGND (power) "Signal Ground. All the internal low power circuitry returns to the SGND pin. All feedback and soft-start connections should return to SGND. SGND should be Kelvin connected to a single point near the negative terminal of the (See Datasheet)", 10 BG (out) "Bottom Gate Drive. This pin drives the gate of the bottom N-channel synchronous switch MOSFET. This pin swings from PGND to INTVCC.", 11 INTVCC (power) "Internal 5.2V Regulator Output. The gate driver and control circuits are powered from this voltage. Bypass this pin to power ground with a low ESR ceramic capacitor of value 4.7uF or greater (X5R or better).", 12 SENSE (in) "Topside Current Sensing Input. Connect this pin to the switch node of the converter for top MOSFET RDS(ON) current sensing. Alternatively, this pin can be connected to a sense resistor at the drain of the top MOSFET for more (See Datasheet)", 13 VIN (power) "Main Input Supply. Bypass this pin to PGND with a low ESR ceramic capacitor of value 1uF or greater (X5R or better).", 14 SW "Switch Node. Connect this pin to the source of the upper power MOSFET. This pin is also used as the input to the bottom side current limit comparator and the zero-crossing reverse current comparator", 15 TG (out) "Top Gate Drive. This pin drives the gate of the top N-channel MOSFET. The TG driver draws power from the BOOST pin and returns to the SW pin, providing true floating drive to the top MOSFET", 16 BOOST "Top Gate Driver Supply. This pin should be decoupled to SW with a 0.1uF low ESR ceramic capacitor. An external Schottky diode from INTVCC to BOOST creates a floating charge-pump supply at BOOST. No other external supplies (See Datasheet)", 17 EP (power) "The exposed pad of the QFN and MSOP packages is connected to PGND"

## LTC3775EMSE#TRPBF
designator U?
High Frequency Synchronous Step-Down Voltage Mode DC/DC Controller, 16-pin SOP (MSE-16-EDP), -40 to 85 degC, Pb-Free, Tape and Reel; Manufacturer: Linear Technology; PartNumber: LTC3775EMSE#TRPBF; Number of Outputs: 1; PackageReference: MSE-16; PackageDescription: 16-Pin Plastic MSOP, Exposed Die Pad, Body 4.039 x 3 mm, Pitch 0.5 mm; Supplier 1: Digi-Key; Supplier Part Number 1: LTC3775EMSE#TRPBF-ND; RoHS: TRUE
footprint LT-MSE-16-EDP_N (SOP, 16-Leads, Body 4.1x3.1mm, Pitch 0.5mm, Thermal Pad 2.95x1.76mm, IPC Medium Density)
footprint LT-MSE-16-EDP_L (SOP, 16-Leads, Body 4.1x3.1mm, Pitch 0.5mm, Thermal Pad 2.95x1.76mm, IPC High Density)
footprint LT-MSE-16-EDP_M (SOP, 16-Leads, Body 4.1x3.1mm, Pitch 0.5mm, Thermal Pad 2.95x1.76mm, IPC Low Density)
pins: 1 MODE/SYNC (in) "Pulse-Skipping Mode Enable/ Sync Pin. This multifunction pin provides pulse-skipping mode enable/disable control and an external clock input for synchronization of the internal oscillator. Pulling this pin below 1.2V (DC) or (See Datasheet)", 2 RUN/~{SHDN} (in) "Enable/Shutdown Input. Pulling this pin above 1.22V enables the controller. Forcing this pin below 1.22V causes the driver outputs to pull low. Pulling this pin below 0.74V forces the LTC3775 into shutdown mode. While in (See Datasheet)", 3 ILIMT (in) "Topside Current Limit Set Point. This pin has an internal 100uA pull-down current, allowing the topside current limit threshold to be programmed by  an external resistor connected to VIN. See Current Limit Applications.", 4 ILIMB (in) "Bottom Side Current Limit Set Point. This pin has an internal 10uA pull-up current, allowing the bottom side current limit threshold to be programmed by an external resistor connected to SGND. See Current Limit Applications.", 5 FB (in) "Error Amplifier Input. The FB pin is connected to a resistive divider from VOUT to SGND. The feedback loop compensation network is also connected to this pin.", 6 COMP (out) "Error Amplifier Output. Use an RC network between the COMP pin and the FB pin to compensate the feedback loop for optimum transient response", 7 SS (in) "Soft-Start. Connect this pin to an external capacitor, CSS, to implement a soft-start function. When the voltage on the SS pin is less than the 0.6V internal reference, the LTC3775 regulates the VFB voltage to the SS pin (See Datasheet)", 8 FREQ (in) "Frequency Set. A resistor connected from this pin to SGND sets the free-running frequency of the internal oscillator. See Applications Information section for resistor value selection details", 9 SGND (power) "Signal Ground. All the internal low power circuitry returns to the SGND pin. All feedback and soft-start connections should return to SGND. SGND should be Kelvin connected to a single point near the negative terminal of the (See Datasheet)", 10 BG (out) "Bottom Gate Drive. This pin drives the gate of the bottom N-channel synchronous switch MOSFET. This pin swings from PGND to INTVCC.", 11 INTVCC (power) "Internal 5.2V Regulator Output. The gate driver and control circuits are powered from this voltage. Bypass this pin to power ground with a low ESR ceramic capacitor of value 4.7uF or greater (X5R or better).", 12 SENSE (in) "Topside Current Sensing Input. Connect this pin to the switch node of the converter for top MOSFET RDS(ON) current sensing. Alternatively, this pin can be connected to a sense resistor at the drain of the top MOSFET for more (See Datasheet)", 13 VIN (power) "Main Input Supply. Bypass this pin to PGND with a low ESR ceramic capacitor of value 1uF or greater (X5R or better).", 14 SW "Switch Node. Connect this pin to the source of the upper power MOSFET. This pin is also used as the input to the bottom side current limit comparator and the zero-crossing reverse current comparator", 15 TG (out) "Top Gate Drive. This pin drives the gate of the top N-channel MOSFET. The TG driver draws power from the BOOST pin and returns to the SW pin, providing true floating drive to the top MOSFET", 16 BOOST "Top Gate Driver Supply. This pin should be decoupled to SW with a 0.1uF low ESR ceramic capacitor. An external Schottky diode from INTVCC to BOOST creates a floating charge-pump supply at BOOST. No other external supplies (See Datasheet)", 17 EP (power) "The exposed pad of the QFN and MSOP packages is connected to PGND"

## LTC3775EUD#PBF
designator U?
High Frequency Synchronous Step-Down Voltage Mode DC/DC Controller, 16-pin QFN (UD-16), -40 to 85 degC, Pb-Free; Manufacturer: Linear Technology; PartNumber: LTC3775EUD#PBF; Number of Outputs: 1; PackageReference: UD-16; PackageDescription: 16-Pin Plastic QFN, Body 3 x 3 mm, Pitch 0.5 mm; Supplier 1: Digi-Key; Supplier Part Number 1: LTC3775EUD#PBF-ND; RoHS: TRUE; Code_JEDEC: MO-220
footprint LT-UD-16_N (QFN, 16-Leads, Body 3x3mm, Pitch 0.5mm, Thermal Pad 1.45x1.45mm, IPC Medium Density)
footprint LT-UD-16_L (QFN, 16-Leads, Body 3x3mm, Pitch 0.5mm, Thermal Pad 1.45x1.45mm, IPC High Density)
footprint LT-UD-16_M (QFN, 16-Leads, Body 3x3mm, Pitch 0.5mm, Thermal Pad 1.45x1.45mm, IPC Low Density)
pins: 1 ILIMT (in) "Topside Current Limit Set Point. This pin has an internal 100uA pull-down current, allowing the topside current limit threshold to be programmed by  an external resistor connected to VIN. See Current Limit Applications.", 2 ILIMB (in) "Bottom Side Current Limit Set Point. This pin has an internal 10uA pull-up current, allowing the bottom side current limit threshold to be programmed by an external resistor connected to SGND. See Current Limit Applications.", 3 FB (in) "Error Amplifier Input. The FB pin is connected to a resistive divider from VOUT to SGND. The feedback loop compensation network is also connected to this pin.", 4 COMP (out) "Error Amplifier Output. Use an RC network between the COMP pin and the FB pin to compensate the feedback loop for optimum transient response", 5 SS (in) "Soft-Start. Connect this pin to an external capacitor, CSS, to implement a soft-start function. When the voltage on the SS pin is less than the 0.6V internal reference, the LTC3775 regulates the VFB voltage to the SS pin (See Datasheet)", 6 FREQ (in) "Frequency Set. A resistor connected from this pin to SGND sets the free-running frequency of the internal oscillator. See Applications Information section for resistor value selection details", 7 SGND (power) "Signal Ground. All the internal low power circuitry returns to the SGND pin. All feedback and soft-start connections should return to SGND. SGND should be Kelvin connected to a single point near the negative terminal of the (See Datasheet)", 8 BG (out) "Bottom Gate Drive. This pin drives the gate of the bottom N-channel synchronous switch MOSFET. This pin swings from PGND to INTVCC.", 9 INTVCC (power) "Internal 5.2V Regulator Output. The gate driver and control circuits are powered from this voltage. Bypass this pin to power ground with a low ESR ceramic capacitor of value 4.7uF or greater (X5R or better).", 10 SENSE (in) "Topside Current Sensing Input. Connect this pin to the switch node of the converter for top MOSFET RDS(ON) current sensing. Alternatively, this pin can be connected to a sense resistor at the drain of the top MOSFET for more (See Datasheet)", 11 VIN (power) "Main Input Supply. Bypass this pin to PGND with a low ESR ceramic capacitor of value 1uF or greater (X5R or better).", 12 SW "Switch Node. Connect this pin to the source of the upper power MOSFET. This pin is also used as the input to the bottom side current limit comparator and the zero-crossing reverse current comparator", 13 TG (out) "Top Gate Drive. This pin drives the gate of the top N-channel MOSFET. The TG driver draws power from the BOOST pin and returns to the SW pin, providing true floating drive to the top MOSFET", 14 BOOST "Top Gate Driver Supply. This pin should be decoupled to SW with a 0.1uF low ESR ceramic capacitor. An external Schottky diode from INTVCC to BOOST creates a floating charge-pump supply at BOOST. No other external supplies (See Datasheet)", 15 MODE/SYNC (in) "Pulse-Skipping Mode Enable/ Sync Pin. This multifunction pin provides pulse-skipping mode enable/disable control and an external clock input for synchronization of the internal oscillator. Pulling this pin below 1.2V (DC) or (See Datasheet)", 16 RUN/~{SHDN} (in) "Enable/Shutdown Input. Pulling this pin above 1.22V enables the controller. Forcing this pin below 1.22V causes the driver outputs to pull low. Pulling this pin below 0.74V forces the LTC3775 into shutdown mode. While in (See Datasheet)", 17 EP (power) "The exposed pad of the QFN and MSOP packages is connected to PGND"

## LTC3775EUD#TRPBF
designator U?
High Frequency Synchronous Step-Down Voltage Mode DC/DC Controller, 16-pin QFN (UD-16), -40 to 85 degC, Pb-Free, Tape and Reel; Manufacturer: Linear Technology; PartNumber: LTC3775EUD#TRPBF; Number of Outputs: 1; PackageReference: UD-16; PackageDescription: 16-Pin Plastic QFN, Body 3 x 3 mm, Pitch 0.5 mm; Supplier 1: Digi-Key; Supplier Part Number 1: LTC3775EUD#TRPBF-ND; RoHS: TRUE; Code_JEDEC: MO-220
footprint LT-UD-16_N (QFN, 16-Leads, Body 3x3mm, Pitch 0.5mm, Thermal Pad 1.45x1.45mm, IPC Medium Density)
footprint LT-UD-16_L (QFN, 16-Leads, Body 3x3mm, Pitch 0.5mm, Thermal Pad 1.45x1.45mm, IPC High Density)
footprint LT-UD-16_M (QFN, 16-Leads, Body 3x3mm, Pitch 0.5mm, Thermal Pad 1.45x1.45mm, IPC Low Density)
pins: 1 ILIMT (in) "Topside Current Limit Set Point. This pin has an internal 100uA pull-down current, allowing the topside current limit threshold to be programmed by  an external resistor connected to VIN. See Current Limit Applications.", 2 ILIMB (in) "Bottom Side Current Limit Set Point. This pin has an internal 10uA pull-up current, allowing the bottom side current limit threshold to be programmed by an external resistor connected to SGND. See Current Limit Applications.", 3 FB (in) "Error Amplifier Input. The FB pin is connected to a resistive divider from VOUT to SGND. The feedback loop compensation network is also connected to this pin.", 4 COMP (out) "Error Amplifier Output. Use an RC network between the COMP pin and the FB pin to compensate the feedback loop for optimum transient response", 5 SS (in) "Soft-Start. Connect this pin to an external capacitor, CSS, to implement a soft-start function. When the voltage on the SS pin is less than the 0.6V internal reference, the LTC3775 regulates the VFB voltage to the SS pin (See Datasheet)", 6 FREQ (in) "Frequency Set. A resistor connected from this pin to SGND sets the free-running frequency of the internal oscillator. See Applications Information section for resistor value selection details", 7 SGND (power) "Signal Ground. All the internal low power circuitry returns to the SGND pin. All feedback and soft-start connections should return to SGND. SGND should be Kelvin connected to a single point near the negative terminal of the (See Datasheet)", 8 BG (out) "Bottom Gate Drive. This pin drives the gate of the bottom N-channel synchronous switch MOSFET. This pin swings from PGND to INTVCC.", 9 INTVCC (power) "Internal 5.2V Regulator Output. The gate driver and control circuits are powered from this voltage. Bypass this pin to power ground with a low ESR ceramic capacitor of value 4.7uF or greater (X5R or better).", 10 SENSE (in) "Topside Current Sensing Input. Connect this pin to the switch node of the converter for top MOSFET RDS(ON) current sensing. Alternatively, this pin can be connected to a sense resistor at the drain of the top MOSFET for more (See Datasheet)", 11 VIN (power) "Main Input Supply. Bypass this pin to PGND with a low ESR ceramic capacitor of value 1uF or greater (X5R or better).", 12 SW "Switch Node. Connect this pin to the source of the upper power MOSFET. This pin is also used as the input to the bottom side current limit comparator and the zero-crossing reverse current comparator", 13 TG (out) "Top Gate Drive. This pin drives the gate of the top N-channel MOSFET. The TG driver draws power from the BOOST pin and returns to the SW pin, providing true floating drive to the top MOSFET", 14 BOOST "Top Gate Driver Supply. This pin should be decoupled to SW with a 0.1uF low ESR ceramic capacitor. An external Schottky diode from INTVCC to BOOST creates a floating charge-pump supply at BOOST. No other external supplies (See Datasheet)", 15 MODE/SYNC (in) "Pulse-Skipping Mode Enable/ Sync Pin. This multifunction pin provides pulse-skipping mode enable/disable control and an external clock input for synchronization of the internal oscillator. Pulling this pin below 1.2V (DC) or (See Datasheet)", 16 RUN/~{SHDN} (in) "Enable/Shutdown Input. Pulling this pin above 1.22V enables the controller. Forcing this pin below 1.22V causes the driver outputs to pull low. Pulling this pin below 0.74V forces the LTC3775 into shutdown mode. While in (See Datasheet)", 17 EP (power) "The exposed pad of the QFN and MSOP packages is connected to PGND"